# EAGLE library part PINHEAD_2.54MM_2X8 (library PicoPromSDParts)
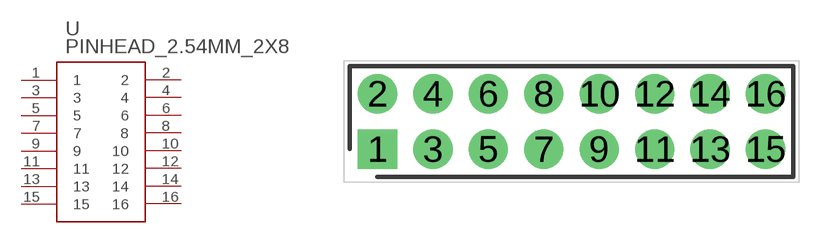
[diagram p0: symbol with the pads of PINHEAD_2.54MM_2X8; footprint PINHEAD_2.54MM_2X8]

Designator prefix -

## PINHEAD_2.54MM_2X8  [PINHEAD_2.54MM_2X8]
1  1
2  2
3  3
4  4
5  5
6  6
7  7
8  8
9  9
10  10
11  11
12  12
13  13
14  14
15  15
16  16

## Footprint PINHEAD_2.54MM_2X8 (pad centres in mm)
61301621821
drill 1.15 pad 1.8 square: 1 -8.89,-1.27
drill 1.15 pad 1.8: 2 -8.89,1.27; 3 -6.35,-1.27; 4 -6.35,1.27; 5 -3.81,-1.27; 6 -3.81,1.27; 7 -1.27,-1.27; 8 -1.27,1.27; 9 1.27,-1.27; 10 1.27,1.27; 11 3.81,-1.27; 12 3.81,1.27; 13 6.35,-1.27; 14 6.35,1.27; 15 8.89,-1.27; 16 8.89,1.27